# Altium schematic symbol library Other.SchLib: 6 symbols
Pins are listed as number, name and electrical type; pins without a type are passive.

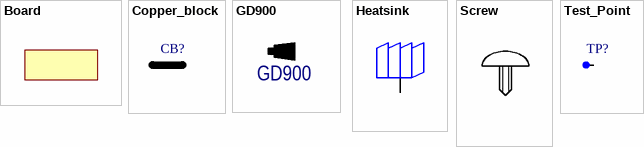
[diagram p0: symbols Board to Test_Point]

## Board
designator ?  (value not drawn)

## Copper_block
designator CB?
footprint Copper_block_10x3x1.0mm (Copper_block)
footprint Copper_block_10x5.5x1.0mm (Copper_block)
footprint Copper_block_30x5.5x1.0mm (Copper_block)
footprint Copper_block_20x5.5x1.0mm (Copper_block)
footprint Copper_block_20x3x1.0mm (Copper_block)
footprint Copper_block_32x7x2.0mm (Copper_block)
footprint Copper_block_45x7x2.0mm (Copper_block)
footprint Copper_block_65x7x2.0mm (Copper_block)
footprint Copper_block_6x1.5x1.5mm (Copper_block)
footprint Copper_block_6x3x1.0mm (Copper_block)

## GD900
designator ?
Thermal Paste; Part Number: Материал Термопаста КПТ-19; Adm_Check_1: 30.03.2019 Параметры ОК (Якубенко А.А.); Component_Type: Термопаста; TDD_Ispolnenie: Постоянные данные; TDD_Naimenovanie: Термопаста КПТ-19; TDD_Razdel_specifikacii: Материалы; Value: Термопаста КПТ-19; Pin Count: 0; Vedomost_pokupnyh: Термопаста КПТ-19
1 alternate drawing of the same symbol

## Heatsink
designator ?
pins: 1
1 alternate drawing of the same symbol

## Screw
designator ?
footprint Screw_M3x6_Phillips
1 alternate drawing of the same symbol

## Test_Point
designator TP?  (no BOM)
pins: 1